# Altium schematic symbol library LED.SchLib: 8 symbols
Pins are listed as number, name and electrical type; pins without a type are passive.

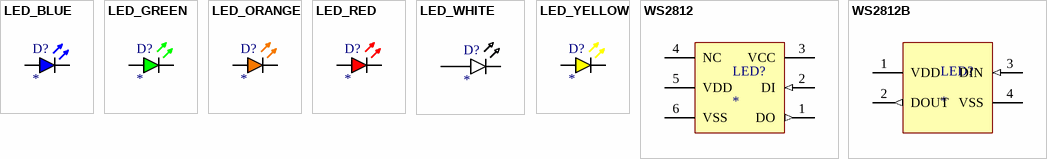
[diagram p0: symbols LED_BLUE to WS2812B]

## LED_BLUE
designator D?
LED
footprint LED0603 (Chip Diode Led, Body 1.6x0.8mm, IPC Low Density)
footprint LED0805 (Chip Diode Led, Body 2.0x1.3mm, IPC Low Density)
footprint LED1206 (Chip Diode Led, Body 3.2x1.6mm, IPC Low Density)
footprint LED3MM
footprint LED5MM
pins: 1, 2

## LED_GREEN
designator D?
LED
footprint LED0603 (Chip Diode Led, Body 1.6x0.8mm, IPC Low Density)
footprint LED0805 (Chip Diode Led, Body 2.0x1.3mm, IPC Low Density)
footprint LED1206 (Chip Diode Led, Body 3.2x1.6mm, IPC Low Density)
footprint LED3MM
footprint LED5MM
pins: 1, 2

## LED_ORANGE
designator D?
LED
footprint LED0603 (Chip Diode Led, Body 1.6x0.8mm, IPC Low Density)
footprint LED0805 (Chip Diode Led, Body 2.0x1.3mm, IPC Low Density)
footprint LED1206 (Chip Diode Led, Body 3.2x1.6mm, IPC Low Density)
footprint LED3MM
footprint LED5MM
pins: 1, 2

## LED_RED
designator D?
LED
footprint LED0603 (Chip Diode Led, Body 1.6x0.8mm, IPC Low Density)
footprint LED0805 (Chip Diode Led, Body 2.0x1.3mm, IPC Low Density)
footprint LED1206 (Chip Diode Led, Body 3.2x1.6mm, IPC Low Density)
footprint LED3MM
footprint LED5MM
pins: 1, 2

## LED_WHITE
designator D?
LED
footprint LED0603 (Chip Diode Led, Body 1.6x0.8mm, IPC Low Density)
footprint LED0805 (Chip Diode Led, Body 2.0x1.3mm, IPC Low Density)
footprint LED1206 (Chip Diode Led, Body 3.2x1.6mm, IPC Low Density)
footprint LED3MM
footprint LED5MM
pins: 1, 2

## LED_YELLOW
designator D?
LED
footprint LED0603 (Chip Diode Led, Body 1.6x0.8mm, IPC Low Density)
footprint LED0805 (Chip Diode Led, Body 2.0x1.3mm, IPC Low Density)
footprint LED1206 (Chip Diode Led, Body 3.2x1.6mm, IPC Low Density)
footprint LED3MM
footprint LED5MM
pins: 1, 2

## WS2812
designator LED?
footprint WS2812
pins: 1 DO (out), 2 DI (in), 3 VCC (power), 4 NC, 5 VDD (power), 6 VSS (power)

## WS2812B
designator LED?
footprint WS2812b
pins: 1 VDD (power), 2 DOUT (out), 3 DIN (in), 4 VSS (power)